# Altium schematic symbol library SCH - ARM CORTEX - STM STM8AL3138Tx.SchLib: 1 symbol
Pins are listed as number, name and electrical type; pins without a type are passive.

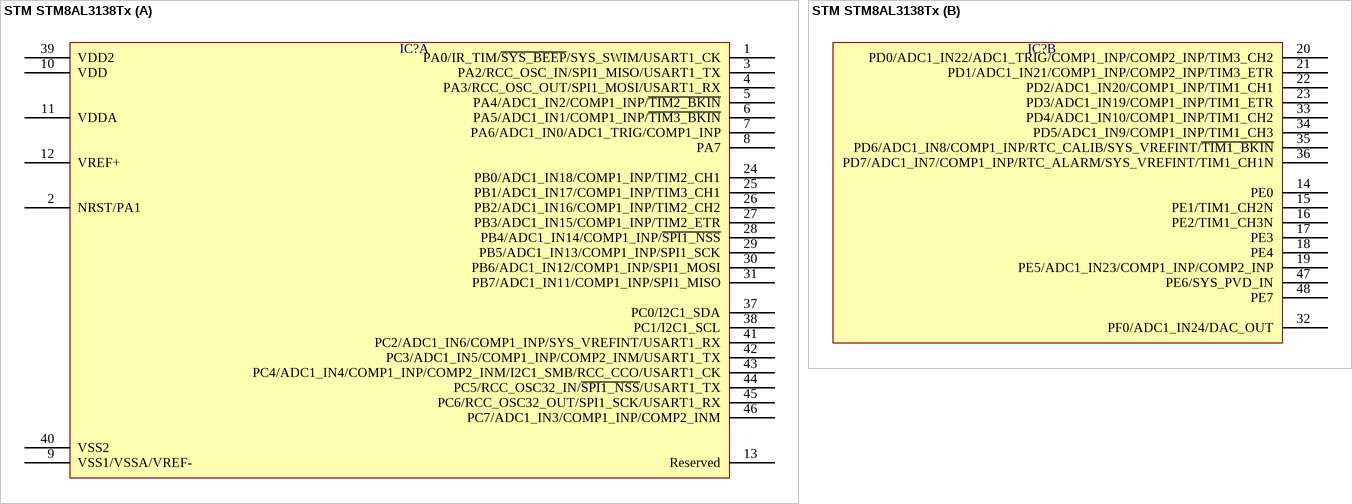
[diagram p0: symbol STM STM8AL3138Tx]

## STM STM8AL3138Tx
designator IC?  (value not drawn)
part A pins: 1 PA0/IR_TIM/~{SYS_BEEP}/SYS_SWIM/USART1_CK, 2 NRST/PA1, 3 PA2/RCC_OSC_IN/SPI1_MISO/USART1_TX, 4 PA3/RCC_OSC_OUT/SPI1_MOSI/USART1_RX, 5 PA4/ADC1_IN2/COMP1_INP/~{TIM2_BKIN}, 6 PA5/ADC1_IN1/COMP1_INP/~{TIM3_BKIN}, 7 PA6/ADC1_IN0/ADC1_TRIG/COMP1_INP, 8 PA7, 9 VSS1/VSSA/VREF-, 10 VDD, 11 VDDA, 12 VREF+, 13 Reserved, 24 PB0/ADC1_IN18/COMP1_INP/TIM2_CH1, 25 PB1/ADC1_IN17/COMP1_INP/TIM3_CH1, 26 PB2/ADC1_IN16/COMP1_INP/TIM2_CH2, 27 PB3/ADC1_IN15/COMP1_INP/TIM2_ETR, 28 PB4/ADC1_IN14/COMP1_INP/~{SPI1_NSS}, 29 PB5/ADC1_IN13/COMP1_INP/SPI1_SCK, 30 PB6/ADC1_IN12/COMP1_INP/SPI1_MOSI, 31 PB7/ADC1_IN11/COMP1_INP/SPI1_MISO, 37 PC0/I2C1_SDA, 38 PC1/I2C1_SCL, 39 VDD2, 40 VSS2, 41 PC2/ADC1_IN6/COMP1_INP/SYS_VREFINT/USART1_RX, 42 PC3/ADC1_IN5/COMP1_INP/COMP2_INM/USART1_TX, 43 PC4/ADC1_IN4/COMP1_INP/COMP2_INM/I2C1_SMB/RCC_CCO/USART1_CK, 44 PC5/RCC_OSC32_IN/~{SPI1_NSS}/USART1_TX, 45 PC6/RCC_OSC32_OUT/SPI1_SCK/USART1_RX, 46 PC7/ADC1_IN3/COMP1_INP/COMP2_INM
part B pins: 14 PE0, 15 PE1/TIM1_CH2N, 16 PE2/TIM1_CH3N, 17 PE3, 18 PE4, 19 PE5/ADC1_IN23/COMP1_INP/COMP2_INP, 20 PD0/ADC1_IN22/ADC1_TRIG/COMP1_INP/COMP2_INP/TIM3_CH2, 21 PD1/ADC1_IN21/COMP1_INP/COMP2_INP/TIM3_ETR, 22 PD2/ADC1_IN20/COMP1_INP/TIM1_CH1, 23 PD3/ADC1_IN19/COMP1_INP/TIM1_ETR, 32 PF0/ADC1_IN24/DAC_OUT, 33 PD4/ADC1_IN10/COMP1_INP/TIM1_CH2, 34 PD5/ADC1_IN9/COMP1_INP/TIM1_CH3, 35 PD6/ADC1_IN8/COMP1_INP/RTC_CALIB/SYS_VREFINT/~{TIM1_BKIN}, 36 PD7/ADC1_IN7/COMP1_INP/RTC_ALARM/SYS_VREFINT/TIM1_CH1N, 47 PE6/SYS_PVD_IN, 48 PE7